# EAGLE library part FGPMMOPA6H (library pyIMU_GPS)
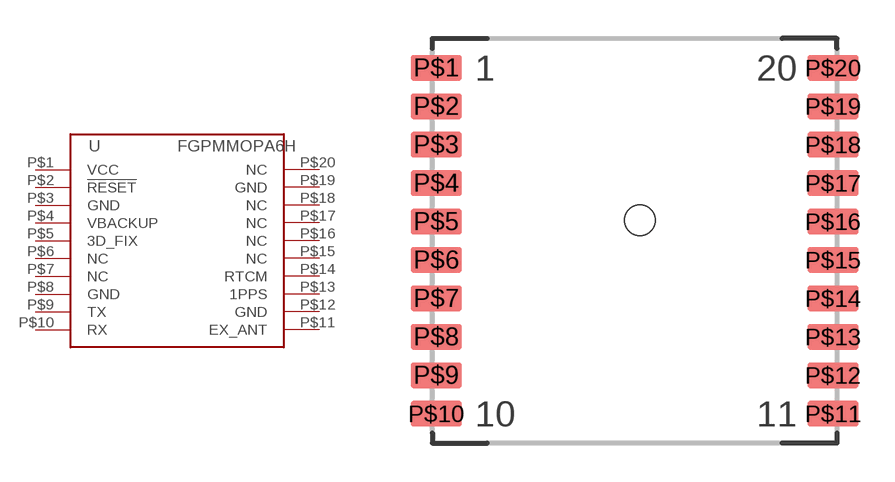
[diagram p0: symbol with the pads of FGPMMOPA6H; footprint FGPMMOPA6H]

Designator prefix U

## FGPMMOPA6H  [FGPMMOPA6H]
P$1  VCC  pwr
P$2  !RESET  in
P$3  GND  pwr
P$4  VBACKUP  pwr
P$5  3D_FIX  out
P$6  NC  nc
P$7  NC  nc
P$8  GND  pwr
P$9  TX  out
P$10  RX  in
P$11  EX_ANT  in
P$12  GND  pwr
P$13  1PPS  out
P$14  RTCM  in
P$15  NC  nc
P$16  NC  nc
P$17  NC  nc
P$18  NC  nc
P$19  GND  pwr
P$20  NC  nc

## Footprint FGPMMOPA6H (pad centres in mm)
smd 2 x 1: P$1 -7.75,6.75; P$2 -7.75,5.25; P$3 -7.75,3.75; P$4 -7.75,2.25; P$5 -7.75,0.75; P$6 -7.75,-0.75; P$7 -7.75,-2.25; P$8 -7.75,-3.75; P$9 -7.75,-5.25; P$10 -7.75,-6.75; P$11 7.75,-6.75; P$12 7.75,-5.25; P$13 7.75,-3.75; P$14 7.75,-2.25; P$15 7.75,-0.75; P$16 7.75,0.75; P$17 7.75,2.25; P$18 7.75,3.75; P$19 7.75,5.25; P$20 7.75,6.75
hole 1.2 at 0.2,0.8